# Altium schematic symbol library DRV8402.SchLib: 1 symbol
Pins are listed as number, name and electrical type; pins without a type are passive.

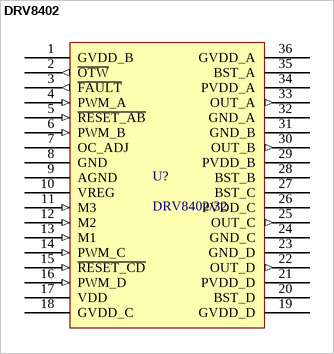
[diagram p0: symbol DRV8402]

## DRV8402
designator U?, comment DRV8402/32
FULL BRIDGE DRIVER
footprint SOP65P1420X360-36N (SOP, 36-Leads, Body 16.0x11.1mm (max), Pitch 0.65mm, IPC Medium Density)
pins: 1 GVDD_B (power), 2 ~{OTW} (out), 3 ~{FAULT} (out), 4 PWM_A (in), 5 ~{RESET_AB} (in), 6 PWM_B (in), 7 OC_ADJ, 8 GND (power), 9 AGND (power), 10 VREG (power), 11 M3 (in), 12 M2 (in), 13 M1 (in), 14 PWM_C (in), 15 ~{RESET_CD} (in), 16 PWM_D (in), 17 VDD (power), 18 GVDD_C (power), 19 GVDD_D (power), 20 BST_D, 21 PVDD_D (power), 22 OUT_D (out), 23 GND_D (power), 24 GND_C (power), 25 OUT_C (out), 26 PVDD_C (power), 27 BST_C (power), 28 BST_B (power), 29 PVDD_B (power), 30 OUT_B (out), 31 GND_B (power), 32 GND_A (power), 33 OUT_A (out), 34 PVDD_A (power), 35 BST_A, 36 GVDD_A (power)